# EAGLE library part HAND_WOUND_PUSH_PULL (library inductor-neosid)
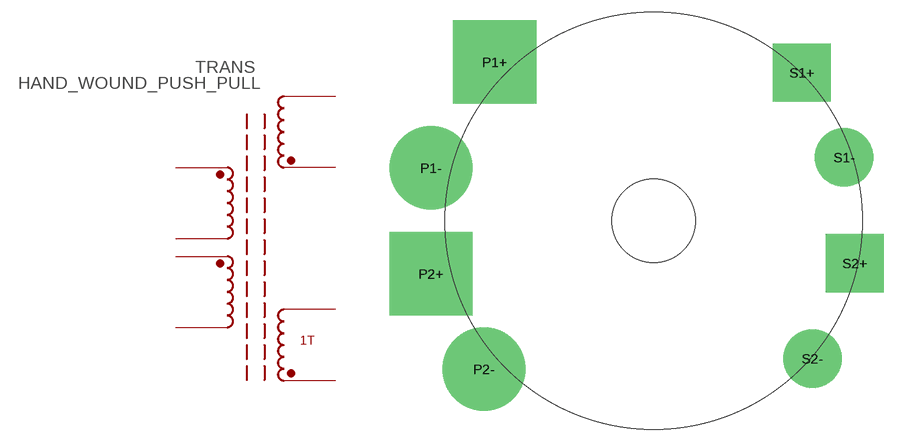
[diagram p24: symbol with the pads of HAND_WOUND_PUSH_PULL; footprint HAND_WOUND_PUSH_PULL]

Designator prefix TRANS

## HAND_WOUND_PUSH_PULL  [HAND_WOUND_PUSH_PULL]
P1+  P1+
P1-  P1-
P2+  P2+
P2-  P2-
S1+  S1+
S1-  S1-
S2+  S2+
S2-  S2-

## Footprint HAND_WOUND_PUSH_PULL (pad centres in mm)
drill 4.3 pad 10 square: P1+ -19.05,19.05; P2+ -26.67,-6.35
drill 4.3 pad 10: P1- -26.67,6.35; P2- -20.32,-17.78
drill 2.5 pad 7 square: S1+ 17.78,17.78; S2+ 24.13,-5.08
drill 2.5 pad 7: S1- 22.86,7.62; S2- 19.05,-16.51